# Altium schematic symbol library nucleo_header.SchLib: 2 symbols
Pins are listed as number, name and electrical type; pins without a type are passive.

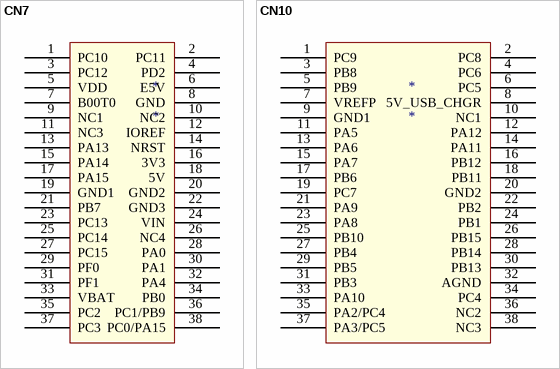
[diagram p0: symbols CN7 to CN10]

## CN7
designator *
footprint morpho_headers
pins: 1 PC10, 2 PC11, 3 PC12, 4 PD2, 5 VDD, 6 E5V, 7 B00T0, 8 GND, 9 NC1, 10 NC2, 11 NC3, 12 IOREF, 13 PA13, 14 NRST, 15 PA14, 16 3V3, 17 PA15, 18 5V, 19 GND1, 20 GND2, 21 PB7, 22 GND3, 23 PC13, 24 VIN, 25 PC14, 26 NC4, 27 PC15, 28 PA0, 29 PF0, 30 PA1, 31 PF1, 32 PA4, 33 VBAT, 34 PB0, 35 PC2, 36 PC1/PB9, 37 PC3, 38 PC0/PA15

## CN10
designator *
footprint morpho_headers
pins: 1 PC9, 2 PC8, 3 PB8, 4 PC6, 5 PB9, 6 PC5, 7 VREFP, 8 5V_USB_CHGR, 9 GND1, 10 NC1, 11 PA5, 12 PA12, 13 PA6, 14 PA11, 15 PA7, 16 PB12, 17 PB6, 18 PB11, 19 PC7, 20 GND2, 21 PA9, 22 PB2, 23 PA8, 24 PB1, 25 PB10, 26 PB15, 27 PB4, 28 PB14, 29 PB5, 30 PB13, 31 PB3, 32 AGND, 33 PA10, 34 PC4, 35 PA2/PC4, 36 NC2, 37 PA3/PC5, 38 NC3